# EAGLE library part HEADER-16 (library everykey)
16 pin header
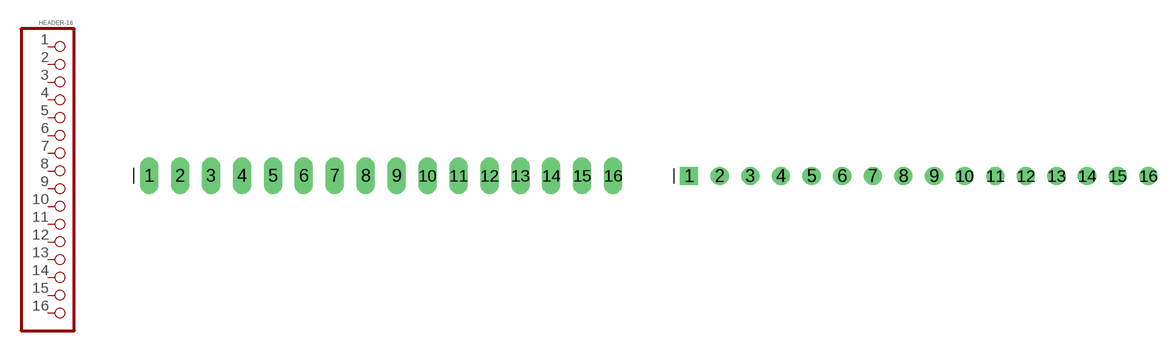
[diagram p36: symbol with the pads of 1X16_OVAL; footprints 1X16_OVAL, 1X16_ROUND]

Designator prefix P

## HEADER-16OVAL  [1X16_OVAL]
1  1  pas
2  2  pas
3  3  pas
4  4  pas
5  5  pas
6  6  pas
7  7  pas
8  8  pas
9  9  pas
10  10  pas
11  11  pas
12  12  pas
13  13  pas
14  14  pas
15  15  pas
16  16  pas

## HEADER-16ROUND  [1X16_ROUND]
Pads as for 1X16_OVAL

## HEADER-16SMT-1.27  [2X08_SMT]
Pads as for 1X16_OVAL

## Footprint 1X16_OVAL (pad centres in mm)
drill 1 long: 1 -19.05,0; 2 -16.51,0; 3 -13.97,0; 4 -11.43,0; 5 -8.89,0; 6 -6.35,0; 7 -3.81,0; 8 -1.27,0; 9 1.27,0; 10 3.81,0; 11 6.35,0; 12 8.89,0; 13 11.43,0; 14 13.97,0; 15 16.51,0; 16 19.05,0

## Footprint 1X16_ROUND (pad centres in mm)
drill 1 square: 1 -19.05,0
drill 1: 2 -16.51,0; 3 -13.97,0; 4 -11.43,0; 5 -8.89,0; 6 -6.35,0; 7 -3.81,0; 8 -1.27,0; 9 1.27,0; 10 3.81,0; 11 6.35,0; 12 8.89,0; 13 11.43,0; 14 13.97,0; 15 16.51,0; 16 19.05,0

## Footprint 2X08_SMT (pad centres in mm)
1.27mm pitch header, 2x8, SMT. Fits e.g. FCI 20021121-X0X16XXF (male) FCI 20021321-X0X16XXLF (female, slightly longer pads than needed)
smd 0.76 x 2.4: 1 -4.445,-1.95; 2 -4.445,1.95; 3 -3.175,-1.95; 4 -3.175,1.95; 5 -1.905,-1.95; 6 -1.905,1.95; 7 -0.635,-1.95; 8 -0.635,1.95; 9 0.635,-1.95; 10 0.635,1.95; 11 1.905,-1.95; 12 1.905,1.95; 13 3.175,-1.95; 14 3.175,1.95; 15 4.445,-1.95; 16 4.445,1.95